# Altium integrated library Capacitor - Ceramic - Sumsung.IntLib: 1421 symbols (part 5 of 22)
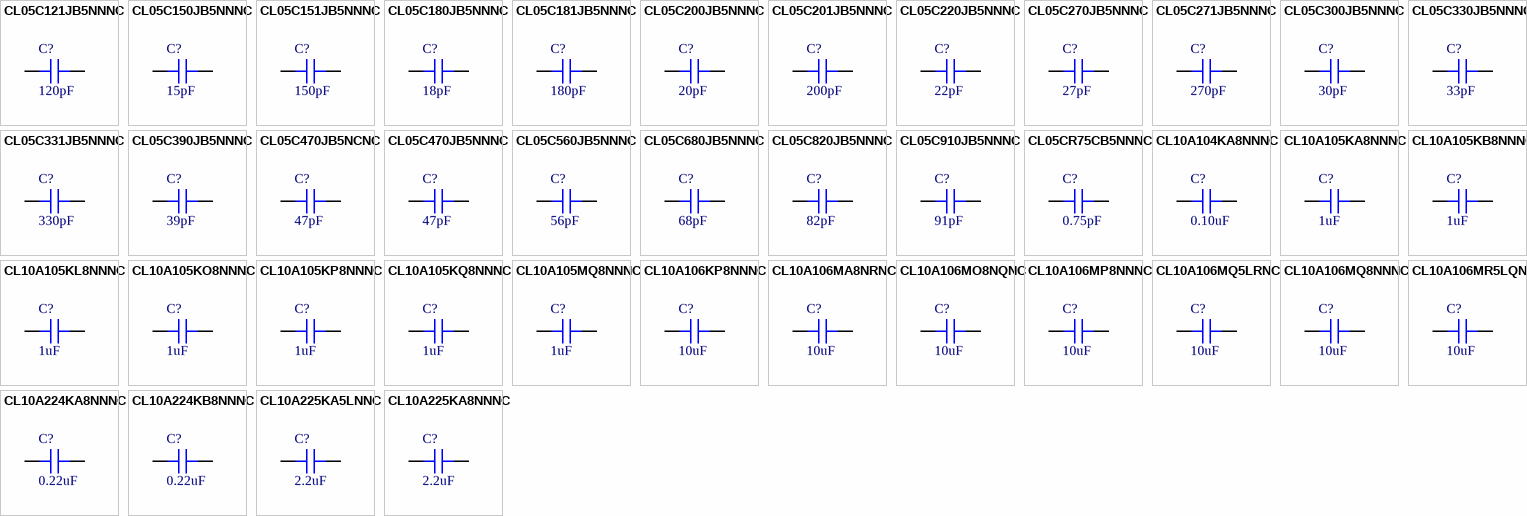
[diagram p39: symbols CL05C121JB5NNNC to CL10A225KA8NNNC]

## CL05C820JB5NNNC
designator C?, comment 82pF
CAP CER 82PF 50V NP0 0402; Part Number: CL05C820JB5NNNC; Manufacturer: Samsung Electro-Mechanics America, Inc.; TemperatureRange: -55C ~ 125C; TemperatureCoefficient: C0G, NP0; Tolerance: 5%; Value: 82pF; PartId: 12571; Supplier 1: Digi-Key; Supplier Part Number 1: 1276-1726-2-ND; ComponentLink1Description: Datasheet; ComponentLink1URL: http://www.samsungsem.com/kr/support/product-search/mlcc/CL05C820JB5NNNC.jsp; ComponentLink2Description: Digi-Key Listing; ComponentLink2URL: https://www.digikey.com/product-detail/en/samsung-electro-mechanics-america-inc/CL05C820JB5NNNC/1276-1726-2-ND/3887384; Voltage: 50V; Price: 0.0023; Device Package: 0402 (1005 Metric)
footprint CAP 0402/1005
pins: 1, 2

## CL05C910JB5NNNC
designator C?, comment 91pF
CAP CER 91PF 50V NP0 0402; Part Number: CL05C910JB5NNNC; Manufacturer: Samsung Electro-Mechanics America, Inc.; TemperatureRange: -55C ~ 125C; TemperatureCoefficient: C0G, NP0; Tolerance: 5%; Value: 91pF; PartId: 12936; Supplier 1: Digi-Key; Supplier Part Number 1: 1276-1732-2-ND; ComponentLink1Description: Datasheet; ComponentLink1URL: http://www.samsungsem.com/kr/support/product-search/mlcc/CL05C910JB5NNNC.jsp; ComponentLink2Description: Digi-Key Listing; ComponentLink2URL: https://www.digikey.com/product-detail/en/samsung-electro-mechanics-america-inc/CL05C910JB5NNNC/1276-1732-2-ND/3887390; Voltage: 50V; Price: 0.0056; Device Package: 0402 (1005 Metric)
footprint CAP 0402/1005
pins: 1, 2

## CL05CR75CB5NNNC
designator C?, comment 0.75pF
CAP CER 0.75PF 50V NP0 0402; Part Number: CL05CR75CB5NNNC; Manufacturer: Samsung Electro-Mechanics America, Inc.; TemperatureRange: -55C ~ 125C; TemperatureCoefficient: C0G, NP0; Tolerance: 0.25pF; Value: 0.75pF; PartId: 12794; Supplier 1: Digi-Key; Supplier Part Number 1: 1276-1736-2-ND; ComponentLink1Description: Datasheet; ComponentLink1URL: http://www.samsungsem.com/kr/support/product-search/mlcc/CL05CR75CB5NNNC.jsp; ComponentLink2Description: Digi-Key Listing; ComponentLink2URL: https://www.digikey.com/product-detail/en/samsung-electro-mechanics-america-inc/CL05CR75CB5NNNC/1276-1736-2-ND/3887394; Voltage: 50V; Price: 0.0046; Device Package: 0402 (1005 Metric)
footprint CAP 0402/1005
pins: 1, 2

## CL10A104KA8NNNC
designator C?, comment 0.10uF
CAP CER 0.1UF 25V X5R 0603; Part Number: CL10A104KA8NNNC; Manufacturer: Samsung Electro-Mechanics America, Inc.; TemperatureRange: -55C ~ 85C; Tolerance: 10%; Value: 0.10uF; PartId: 13476; Supplier 1: Digi-Key; Supplier Part Number 1: 1276-1857-2-ND; ComponentLink1Description: Datasheet; ComponentLink1URL: http://www.samsungsem.com/kr/support/product-search/mlcc/CL10A104KA8NNNC.jsp; ComponentLink2Description: Digi-Key Listing; ComponentLink2URL: https://www.digikey.com/product-detail/en/samsung-electro-mechanics-america-inc/CL10A104KA8NNNC/1276-1857-2-ND/3887515; TemperatureCoefficient: X5R; Voltage: 25V; Price: 0.0069; Device Package: 0603 (1608 Metric)
footprint CAP 0603/1608
pins: 1, 2

## CL10A105KA8NNNC
designator C?, comment 1uF
CAP CER 1UF 25V X5R 0603; Part Number: CL10A105KA8NNNC; Manufacturer: Samsung Electro-Mechanics America, Inc.; TemperatureRange: -55C ~ 85C; Tolerance: 10%; Value: 1uF; PartId: 13209; Supplier 1: Digi-Key; Supplier Part Number 1: 1276-1102-2-ND; ComponentLink1Description: Datasheet; ComponentLink1URL: http://www.samsungsem.com/kr/support/product-search/mlcc/CL10A105KA8NNNC.jsp; ComponentLink2Description: Digi-Key Listing; ComponentLink2URL: https://www.digikey.com/product-detail/en/samsung-electro-mechanics-america-inc/CL10A105KA8NNNC/1276-1102-2-ND/3886760; TemperatureCoefficient: X5R; Voltage: 25V; Price: 0.0082; Device Package: 0603 (1608 Metric)
footprint CAP 0603/1608
pins: 1, 2

## CL10A105KB8NNNC
designator C?, comment 1uF
CAP CER 1UF 50V X5R 0603; Part Number: CL10A105KB8NNNC; Manufacturer: Samsung Electro-Mechanics America, Inc.; TemperatureRange: -55C ~ 85C; Tolerance: 10%; Value: 1uF; PartId: 13187; Supplier 1: Digi-Key; Supplier Part Number 1: 1276-1860-2-ND; ComponentLink1Description: Datasheet; ComponentLink1URL: http://www.samsungsem.com/kr/support/product-search/mlcc/CL10A105KB8NNNC.jsp; ComponentLink2Description: Digi-Key Listing; ComponentLink2URL: https://www.digikey.com/product-detail/en/samsung-electro-mechanics-america-inc/CL10A105KB8NNNC/1276-1860-2-ND/3887518; TemperatureCoefficient: X5R; Voltage: 50V; Price: 0.0236; Device Package: 0603 (1608 Metric)
footprint CAP 0603/1608
pins: 1, 2

## CL10A105KL8NNNC
designator C?, comment 1uF
CAP CER 1UF 35V X5R 0603; Part Number: CL10A105KL8NNNC; Manufacturer: Samsung Electro-Mechanics America, Inc.; TemperatureRange: -55C ~ 85C; Tolerance: 10%; Value: 1uF; PartId: 13292; Supplier 1: Digi-Key; Supplier Part Number 1: 1276-1861-2-ND; ComponentLink1Description: Datasheet; ComponentLink1URL: http://www.samsungsem.com/kr/support/product-search/mlcc/CL10A105KL8NNNC.jsp; ComponentLink2Description: Digi-Key Listing; ComponentLink2URL: https://www.digikey.com/product-detail/en/samsung-electro-mechanics-america-inc/CL10A105KL8NNNC/1276-1861-2-ND/3887519; TemperatureCoefficient: X5R; Voltage: 35V; Price: 0.0236; Device Package: 0603 (1608 Metric)
footprint CAP 0603/1608
pins: 1, 2

## CL10A105KO8NNNC
designator C?, comment 1uF
CAP CER 1UF 16V X5R 0603; Part Number: CL10A105KO8NNNC; Manufacturer: Samsung Electro-Mechanics America, Inc.; TemperatureRange: -55C ~ 85C; Tolerance: 10%; Value: 1uF; PartId: 13125; Supplier 1: Digi-Key; Supplier Part Number 1: 1276-1034-2-ND; ComponentLink1Description: Datasheet; ComponentLink1URL: http://www.samsungsem.com/kr/support/product-search/mlcc/CL10A105KO8NNNC.jsp; ComponentLink2Description: Digi-Key Listing; ComponentLink2URL: https://www.digikey.com/product-detail/en/samsung-electro-mechanics-america-inc/CL10A105KO8NNNC/1276-1034-2-ND/3886692; TemperatureCoefficient: X5R; Voltage: 16V; Price: 0.0072; Device Package: 0603 (1608 Metric)
footprint CAP 0603/1608
pins: 1, 2

## CL10A105KP8NNNC
designator C?, comment 1uF
CAP CER 1UF 10V X5R 0603; Part Number: CL10A105KP8NNNC; Manufacturer: Samsung Electro-Mechanics America, Inc.; TemperatureRange: -55C ~ 85C; Tolerance: 10%; Value: 1uF; PartId: 13628; Supplier 1: Digi-Key; Supplier Part Number 1: 1276-1182-2-ND; ComponentLink1Description: Datasheet; ComponentLink1URL: http://www.samsungsem.com/kr/support/product-search/mlcc/CL10A105KP8NNNC.jsp; ComponentLink2Description: Digi-Key Listing; ComponentLink2URL: https://www.digikey.com/product-detail/en/samsung-electro-mechanics-america-inc/CL10A105KP8NNNC/1276-1182-2-ND/3886840; TemperatureCoefficient: X5R; Voltage: 10V; Price: 0.0058; Device Package: 0603 (1608 Metric)
footprint CAP 0603/1608
pins: 1, 2

## CL10A105KQ8NNNC
designator C?, comment 1uF
CAP CER 1UF 6.3V X5R 0603; Part Number: CL10A105KQ8NNNC; Manufacturer: Samsung Electro-Mechanics; TemperatureRange: -55C ~ 85C; Tolerance: 10%; Value: 1uF; PartId: 30208; Supplier 1: Digi-Key; Supplier Part Number 1: 1276-1036-2-ND; ComponentLink1Description: Datasheet; ComponentLink1URL: http://www.samsungsem.com/kr/support/product-search/mlcc/CL10A105KQ8NNNC.jsp; ComponentLink2Description: Digi-Key Listing; ComponentLink2URL: https://www.digikey.com/product-detail/en/samsung-electro-mechanics/CL10A105KQ8NNNC/1276-1036-2-ND/3886694; TemperatureCoefficient: X5R; Voltage: 6.3V; Price: 0; Device Package: 0603 (1608 Metric)
footprint CAP 0603/1608
pins: 1, 2

## CL10A105MQ8NNNC
designator C?, comment 1uF
CAP CER 1UF 6.3V X5R 0603; Part Number: CL10A105MQ8NNNC; Manufacturer: Samsung Electro-Mechanics America, Inc.; TemperatureRange: -55C ~ 85C; Tolerance: 20%; Value: 1uF; PartId: 13627; Supplier 1: Digi-Key; Supplier Part Number 1: 1276-1867-2-ND; ComponentLink1Description: Datasheet; ComponentLink1URL: http://www.samsungsem.com/kr/support/product-search/mlcc/CL10A105MQ8NNNC.jsp; ComponentLink2Description: Digi-Key Listing; ComponentLink2URL: https://www.digikey.com/product-detail/en/samsung-electro-mechanics-america-inc/CL10A105MQ8NNNC/1276-1867-2-ND/3887525; TemperatureCoefficient: X5R; Voltage: 6.3V; Price: 0.0058; Device Package: 0603 (1608 Metric)
footprint CAP 0603/1608
pins: 1, 2

## CL10A106KP8NNNC
designator C?, comment 10uF
CAP CER 10UF 10V X5R 0603; Part Number: CL10A106KP8NNNC; Manufacturer: Samsung Electro-Mechanics America, Inc.; TemperatureRange: -55C ~ 85C; Tolerance: 10%; Value: 10uF; PartId: 13182; Supplier 1: Digi-Key; Supplier Part Number 1: 1276-1192-2-ND; ComponentLink1Description: Datasheet; ComponentLink1URL: http://www.samsungsem.com/kr/support/product-search/mlcc/CL10A106KP8NNNC.jsp; ComponentLink2Description: Digi-Key Listing; ComponentLink2URL: https://www.digikey.com/product-detail/en/samsung-electro-mechanics-america-inc/CL10A106KP8NNNC/1276-1192-2-ND/3886850; TemperatureCoefficient: X5R; Voltage: 10V; Price: 0.061; Device Package: 0603 (1608 Metric)
footprint CAP 0603/1608
pins: 1, 2

## CL10A106MA8NRNC
designator C?, comment 10uF
CAP CER 10UF 25V X5R 0603; Part Number: CL10A106MA8NRNC; Manufacturer: Samsung Electro-Mechanics America, Inc.; TemperatureRange: -55C ~ 85C; Tolerance: 20%; Value: 10uF; PartId: 13174; Supplier 1: Digi-Key; Supplier Part Number 1: 1276-1869-2-ND; ComponentLink1Description: Datasheet; ComponentLink1URL: http://www.samsungsem.com/kr/support/product-search/mlcc/CL10A106MA8NRNC.jsp; ComponentLink2Description: Digi-Key Listing; ComponentLink2URL: https://www.digikey.com/product-detail/en/samsung-electro-mechanics-america-inc/CL10A106MA8NRNC/1276-1869-2-ND/3887527; TemperatureCoefficient: X5R; Voltage: 25V; Price: 0.196; Device Package: 0603 (1608 Metric)
footprint CAP 0603/1608
pins: 1, 2

## CL10A106MO8NQNC
designator C?, comment 10uF
CAP CER 10UF 16V X5R 0603; Part Number: CL10A106MO8NQNC; Manufacturer: Samsung Electro-Mechanics America, Inc.; TemperatureRange: -55C ~ 85C; Tolerance: 20%; Value: 10uF; PartId: 13189; Supplier 1: Digi-Key; Supplier Part Number 1: 1276-1870-2-ND; ComponentLink1Description: Datasheet; ComponentLink1URL: http://www.samsungsem.com/kr/support/product-search/mlcc/CL10A106MO8NQNC.jsp; ComponentLink2Description: Digi-Key Listing; ComponentLink2URL: https://www.digikey.com/product-detail/en/samsung-electro-mechanics-america-inc/CL10A106MO8NQNC/1276-1870-2-ND/3887528; TemperatureCoefficient: X5R; Voltage: 16V; Price: 0.3135; Device Package: 0603 (1608 Metric)
footprint CAP 0603/1608
pins: 1, 2

## CL10A106MP8NNNC
designator C?, comment 10uF
CAP CER 10UF 10V X5R 0603; Part Number: CL10A106MP8NNNC; Manufacturer: Samsung Electro-Mechanics America, Inc.; TemperatureRange: -55C ~ 85C; Tolerance: 20%; Value: 10uF; PartId: 13169; Supplier 1: Digi-Key; Supplier Part Number 1: 1276-1871-2-ND; ComponentLink1Description: Datasheet; ComponentLink1URL: http://www.samsungsem.com/kr/support/product-search/mlcc/CL10A106MP8NNNC.jsp; ComponentLink2Description: Digi-Key Listing; ComponentLink2URL: https://www.digikey.com/product-detail/en/samsung-electro-mechanics-america-inc/CL10A106MP8NNNC/1276-1871-2-ND/3887529; TemperatureCoefficient: X5R; Voltage: 10V; Price: 0.0736; Device Package: 0603 (1608 Metric)
footprint CAP 0603/1608
pins: 1, 2

## CL10A106MQ5LRNC
designator C?, comment 10uF
CAP CER 10UF 6.3V X5R 0603; Part Number: CL10A106MQ5LRNC; Manufacturer: Samsung Electro-Mechanics America, Inc.; TemperatureRange: -55C ~ 85C; Tolerance: 20%; Value: 10uF; PartId: 13485; Supplier 1: Digi-Key; Supplier Part Number 1: 1276-1872-2-ND; ComponentLink1Description: Datasheet; ComponentLink1URL: http://www.samsungsem.com/kr/support/product-search/mlcc/CL10A106MQ5LRNC.jsp; ComponentLink2Description: Digi-Key Listing; ComponentLink2URL: https://www.digikey.com/product-detail/en/samsung-electro-mechanics-america-inc/CL10A106MQ5LRNC/1276-1872-2-ND/3887530; TemperatureCoefficient: X5R; Voltage: 6.3V; Price: 0.0571; Device Package: 0603 (1608 Metric)
footprint CAP 0603/1608
pins: 1, 2

## CL10A106MQ8NNNC
designator C?, comment 10uF
CAP CER 10UF 6.3V X5R 0603; Part Number: CL10A106MQ8NNNC; Manufacturer: Samsung Electro-Mechanics America, Inc.; TemperatureRange: -55C ~ 85C; Tolerance: 20%; Value: 10uF; PartId: 13031; Supplier 1: Digi-Key; Supplier Part Number 1: 1276-1119-2-ND; ComponentLink1Description: Datasheet; ComponentLink1URL: http://www.samsungsem.com/kr/support/product-search/mlcc/CL10A106MQ8NNNC.jsp; ComponentLink2Description: Digi-Key Listing; ComponentLink2URL: https://www.digikey.com/product-detail/en/samsung-electro-mechanics-america-inc/CL10A106MQ8NNNC/1276-1119-2-ND/3886777; TemperatureCoefficient: X5R; Voltage: 6.3V; Price: 0.0274; Device Package: 0603 (1608 Metric)
footprint CAP 0603/1608
pins: 1, 2

## CL10A106MR5LQNC
designator C?, comment 10uF
CAP CER 10UF 4V X5R 0603; Part Number: CL10A106MR5LQNC; Manufacturer: Samsung Electro-Mechanics America, Inc.; TemperatureRange: -55C ~ 85C; Tolerance: 20%; Value: 10uF; PartId: 13640; Supplier 1: Digi-Key; Supplier Part Number 1: 1276-1873-2-ND; ComponentLink1Description: Datasheet; ComponentLink1URL: http://www.samsungsem.com/kr/support/product-search/mlcc/CL10A106MR5LQNC.jsp; ComponentLink2Description: Digi-Key Listing; ComponentLink2URL: https://www.digikey.com/product-detail/en/samsung-electro-mechanics-america-inc/CL10A106MR5LQNC/1276-1873-2-ND/3887531; TemperatureCoefficient: X5R; Voltage: 4V; Price: 0.0274; Device Package: 0603 (1608 Metric)
footprint CAP 0603/1608
pins: 1, 2

## CL10A224KA8NNNC
designator C?, comment 0.22uF
CAP CER 0.22UF 25V X5R 0603; Part Number: CL10A224KA8NNNC; Manufacturer: Samsung Electro-Mechanics; TemperatureRange: -55C ~ 85C; Tolerance: 10%; Value: 0.22uF; PartId: 30476; Supplier 1: Digi-Key; Supplier Part Number 1: 1276-1875-2-ND; ComponentLink1Description: Datasheet; ComponentLink1URL: http://www.samsungsem.com/kr/support/product-search/mlcc/CL10A224KA8NNNC.jsp; ComponentLink2Description: Digi-Key Listing; ComponentLink2URL: https://www.digikey.com/product-detail/en/samsung-electro-mechanics/CL10A224KA8NNNC/1276-1875-2-ND/3887533; TemperatureCoefficient: X5R; Voltage: 25V; Price: 0; Device Package: 0603 (1608 Metric)
footprint CAP 0603/1608
pins: 1, 2

## CL10A224KB8NNNC
designator C?, comment 0.22uF
CAP CER 0.22UF 50V X5R 0603; Part Number: CL10A224KB8NNNC; Manufacturer: Samsung Electro-Mechanics; TemperatureRange: -55C ~ 85C; Tolerance: 10%; Value: 0.22uF; PartId: 30823; Supplier 1: Digi-Key; Supplier Part Number 1: 1276-1876-2-ND; ComponentLink1Description: Datasheet; ComponentLink1URL: http://www.samsungsem.com/kr/support/product-search/mlcc/CL10A224KB8NNNC.jsp; ComponentLink2Description: Digi-Key Listing; ComponentLink2URL: https://www.digikey.com/product-detail/en/samsung-electro-mechanics/CL10A224KB8NNNC/1276-1876-2-ND/3887534; TemperatureCoefficient: X5R; Voltage: 50V; Price: 0; Device Package: 0603 (1608 Metric)
footprint CAP 0603/1608
pins: 1, 2

## CL10A225KA5LNNC
designator C?, comment 2.2uF
CAP CER 2.2UF 25V X5R 0603; Part Number: CL10A225KA5LNNC; Manufacturer: Samsung Electro-Mechanics America, Inc.; TemperatureRange: -55C ~ 85C; Tolerance: 10%; Value: 2.2uF; PartId: 13338; Supplier 1: Digi-Key; Supplier Part Number 1: 1276-1878-2-ND; ComponentLink1Description: Datasheet; ComponentLink1URL: http://www.samsungsem.com/kr/front/downloadcms.do?path=/kr/support/product-search/mlcc/__icsFiles/afieldfile/2014/11/05&fileName=C_CL10A225KA5LNNC.pdf; ComponentLink2Description: Digi-Key Listing; ComponentLink2URL: https://www.digikey.com/product-detail/en/samsung-electro-mechanics-america-inc/CL10A225KA5LNNC/1276-1878-2-ND/3887536; TemperatureCoefficient: X5R; Voltage: 25V; Price: 0.036; Device Package: 0603 (1608 Metric)
footprint CAP 0603/1608
pins: 1, 2

## CL10A225KA8NNNC
designator C?, comment 2.2uF
CAP CER 2.2UF 25V X5R 0603; Part Number: CL10A225KA8NNNC; Manufacturer: Samsung Electro-Mechanics America, Inc.; TemperatureRange: -55C ~ 85C; Tolerance: 10%; Value: 2.2uF; PartId: 13360; Supplier 1: Digi-Key; Supplier Part Number 1: 1276-1879-2-ND; ComponentLink1Description: Datasheet; ComponentLink1URL: http://www.samsungsem.com/kr/support/product-search/mlcc/CL10A225KA8NNNC.jsp; ComponentLink2Description: Digi-Key Listing; ComponentLink2URL: https://www.digikey.com/product-detail/en/samsung-electro-mechanics-america-inc/CL10A225KA8NNNC/1276-1879-2-ND/3887537; TemperatureCoefficient: X5R; Voltage: 25V; Price: 0.0294; Device Package: 0603 (1608 Metric)
footprint CAP 0603/1608
pins: 1, 2

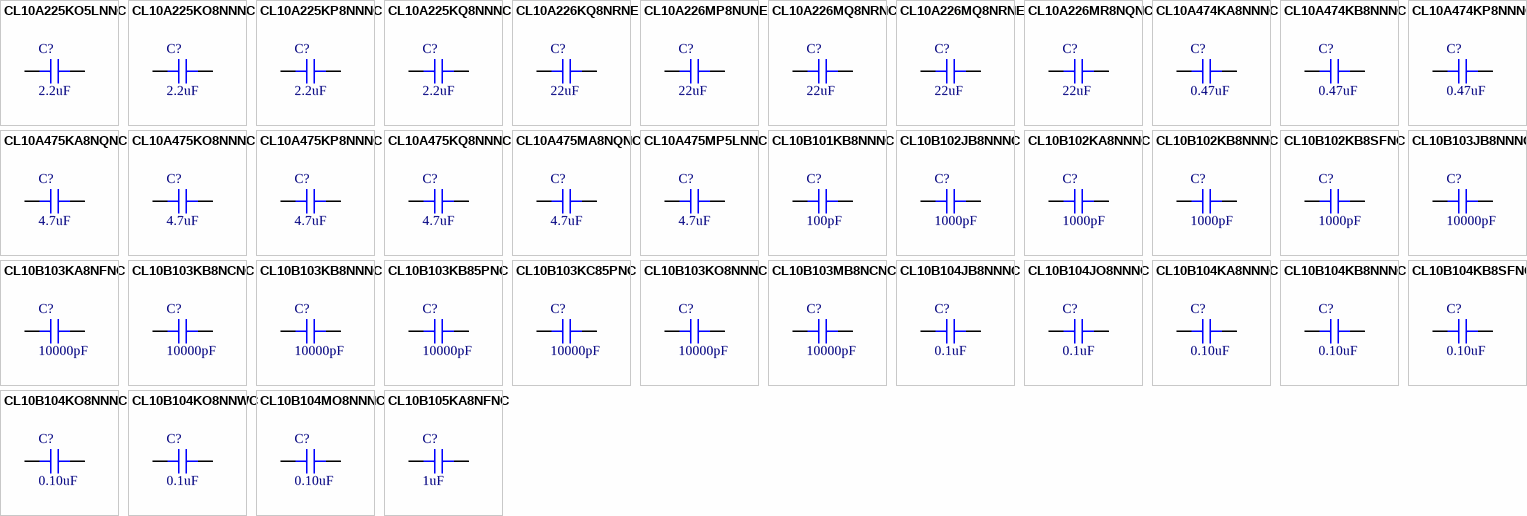
[diagram p7: symbols CL10A225KO5LNNC to CL10B105KA8NFNC]

## CL10A225KO5LNNC
designator C?, comment 2.2uF
CAP CER 2.2UF 16V X5R 0603; Part Number: CL10A225KO5LNNC; Manufacturer: Samsung Electro-Mechanics; TemperatureRange: -55C ~ 85C; Tolerance: 10%; Value: 2.2uF; PartId: 30554; Supplier 1: Digi-Key; Supplier Part Number 1: 1276-1880-2-ND; ComponentLink1Description: Datasheet; ComponentLink1URL: http://www.samsungsem.com/kr/support/product-search/mlcc/CL10A225KO5LNNC.jsp; ComponentLink2Description: Digi-Key Listing; ComponentLink2URL: https://www.digikey.com/product-detail/en/samsung-electro-mechanics/CL10A225KO5LNNC/1276-1880-2-ND/3887538; TemperatureCoefficient: X5R; Voltage: 16V; Price: 0; Device Package: 0603 (1608 Metric)
footprint CAP 0603/1608
pins: 1, 2

## CL10A225KO8NNNC
designator C?, comment 2.2uF
CAP CER 2.2UF 16V X5R 0603; Part Number: CL10A225KO8NNNC; Manufacturer: Samsung Electro-Mechanics America, Inc.; TemperatureRange: -55C ~ 85C; Tolerance: 10%; Value: 2.2uF; PartId: 13108; Supplier 1: Digi-Key; Supplier Part Number 1: 1276-1040-2-ND; ComponentLink1Description: Datasheet; ComponentLink1URL: http://www.samsungsem.com/kr/support/product-search/mlcc/CL10A225KO8NNNC.jsp; ComponentLink2Description: Digi-Key Listing; ComponentLink2URL: https://www.digikey.com/product-detail/en/samsung-electro-mechanics-america-inc/CL10A225KO8NNNC/1276-1040-2-ND/3886698; TemperatureCoefficient: X5R; Voltage: 16V; Price: 0.0236; Device Package: 0603 (1608 Metric)
footprint CAP 0603/1608
pins: 1, 2

## CL10A225KP8NNNC
designator C?, comment 2.2uF
CAP CER 2.2UF 10V X5R 0603; Part Number: CL10A225KP8NNNC; Manufacturer: Samsung Electro-Mechanics America, Inc.; TemperatureRange: -55C ~ 85C; Tolerance: 10%; Value: 2.2uF; PartId: 13147; Supplier 1: Digi-Key; Supplier Part Number 1: 1276-1085-2-ND; ComponentLink1Description: Datasheet; ComponentLink1URL: http://www.samsungsem.com/kr/support/product-search/mlcc/CL10A225KP8NNNC.jsp; ComponentLink2Description: Digi-Key Listing; ComponentLink2URL: https://www.digikey.com/product-detail/en/samsung-electro-mechanics-america-inc/CL10A225KP8NNNC/1276-1085-2-ND/3886743; TemperatureCoefficient: X5R; Voltage: 10V; Price: 0.0184; Device Package: 0603 (1608 Metric)
footprint CAP 0603/1608
pins: 1, 2

## CL10A225KQ8NNNC
designator C?, comment 2.2uF
CAP CER 2.2UF 6.3V X5R 0603; Part Number: CL10A225KQ8NNNC; Manufacturer: Samsung Electro-Mechanics America, Inc.; TemperatureRange: -55C ~ 85C; Tolerance: 10%; Value: 2.2uF; PartId: 13344; Supplier 1: Digi-Key; Supplier Part Number 1: 1276-1183-2-ND; ComponentLink1Description: Datasheet; ComponentLink1URL: http://www.samsungsem.com/kr/support/product-search/mlcc/CL10A225KQ8NNNC.jsp; ComponentLink2Description: Digi-Key Listing; ComponentLink2URL: https://www.digikey.com/product-detail/en/samsung-electro-mechanics-america-inc/CL10A225KQ8NNNC/1276-1183-2-ND/3886841; TemperatureCoefficient: X5R; Voltage: 6.3V; Price: 0.0166; Device Package: 0603 (1608 Metric)
footprint CAP 0603/1608
pins: 1, 2

## CL10A226KQ8NRNE
designator C?, comment 22uF
CAP CER 22UF 6.3V X5R 0603; Part Number: CL10A226KQ8NRNE; Manufacturer: Samsung Electro-Mechanics America, Inc.; TemperatureRange: -55C ~ 85C; Tolerance: 10%; Value: 22uF; PartId: 13568; Supplier 1: Digi-Key; Supplier Part Number 1: 1276-2867-2-ND; ComponentLink1Description: Datasheet; ComponentLink1URL: //media.digikey.com/pdf/Data%20Sheets/Samsung%20PDFs/CL10A226KQ8NRNE_Spec.pdf; ComponentLink2Description: Digi-Key Listing; ComponentLink2URL: https://www.digikey.com/product-detail/en/samsung-electro-mechanics-america-inc/CL10A226KQ8NRNE/1276-2867-2-ND/3888525; TemperatureCoefficient: X5R; Voltage: 6.3V; Price: 0.0741; Device Package: 0603 (1608 Metric)
footprint CAP 0603/1608
pins: 1, 2

## CL10A226MP8NUNE
designator C?, comment 22uF
CAP CER 22UF 10V X5R 0603; Part Number: CL10A226MP8NUNE; Manufacturer: Samsung Electro-Mechanics America, Inc.; TemperatureRange: -55C ~ 85C; Tolerance: 20%; Value: 22uF; PartId: 13111; Supplier 1: Digi-Key; Supplier Part Number 1: 1276-1274-2-ND; ComponentLink1Description: Datasheet; ComponentLink1URL: http://www.samsungsem.com/kr/support/product-search/mlcc/CL10A226MP8NUNE.jsp; ComponentLink2Description: Digi-Key Listing; ComponentLink2URL: https://www.digikey.com/product-detail/en/samsung-electro-mechanics-america-inc/CL10A226MP8NUNE/1276-1274-2-ND/3886932; TemperatureCoefficient: X5R; Voltage: 10V; Price: 0.112; Device Package: 0603 (1608 Metric)
footprint CAP 0603/1608
pins: 1, 2

## CL10A226MQ8NRNC
designator C?, comment 22uF
CAP CER 22UF 6.3V X5R 0603; Part Number: CL10A226MQ8NRNC; Manufacturer: Samsung Electro-Mechanics America, Inc.; TemperatureRange: -55C ~ 85C; Tolerance: 20%; Value: 22uF; PartId: 13020; Supplier 1: Digi-Key; Supplier Part Number 1: 1276-1193-2-ND; ComponentLink1Description: Datasheet; ComponentLink1URL: http://www.samsungsem.com/kr/support/product-search/mlcc/CL10A226MQ8NRNC.jsp; ComponentLink2Description: Digi-Key Listing; ComponentLink2URL: https://www.digikey.com/product-detail/en/samsung-electro-mechanics-america-inc/CL10A226MQ8NRNC/1276-1193-2-ND/3886851; TemperatureCoefficient: X5R; Voltage: 6.3V; Price: 0.0473; Device Package: 0603 (1608 Metric)
footprint CAP 0603/1608
pins: 1, 2

## CL10A226MQ8NRNE
designator C?, comment 22uF
CAP CER 22UF 6.3V X5R 0603; Part Number: CL10A226MQ8NRNE; Manufacturer: Samsung Electro-Mechanics America, Inc.; TemperatureRange: -55C ~ 85C; Tolerance: 20%; Value: 22uF; PartId: 13063; Supplier 1: Digi-Key; Supplier Part Number 1: 1276-2868-2-ND; ComponentLink1Description: Datasheet; ComponentLink1URL: http://www.samsungsem.com/kr/support/product-search/mlcc/CL10A226MQ8NRNE.jsp; ComponentLink2Description: Digi-Key Listing; ComponentLink2URL: https://www.digikey.com/product-detail/en/samsung-electro-mechanics-america-inc/CL10A226MQ8NRNE/1276-2868-2-ND/3888526; TemperatureCoefficient: X5R; Voltage: 6.3V; Price: 0.0512; Device Package: 0603 (1608 Metric)
footprint CAP 0603/1608
pins: 1, 2

## CL10A226MR8NQNC
designator C?, comment 22uF
CAP CER 22UF 4V X5R 0603; Part Number: CL10A226MR8NQNC; Manufacturer: Samsung Electro-Mechanics America, Inc.; TemperatureRange: -55C ~ 85C; Tolerance: 20%; Value: 22uF; PartId: 13385; Supplier 1: Digi-Key; Supplier Part Number 1: 1276-1891-2-ND; ComponentLink1Description: Datasheet; ComponentLink1URL: //media.digikey.com/pdf/Data%20Sheets/Samsung%20PDFs/CL10A226MR8NQNC_spec.pdf; ComponentLink2Description: Digi-Key Listing; ComponentLink2URL: https://www.digikey.com/product-detail/en/samsung-electro-mechanics-america-inc/CL10A226MR8NQNC/1276-1891-2-ND/3887549; TemperatureCoefficient: X5R; Voltage: 4V; Price: 0.0647; Device Package: 0603 (1608 Metric)
footprint CAP 0603/1608
pins: 1, 2

## CL10A474KA8NNNC
designator C?, comment 0.47uF
CAP CER 0.47UF 25V X5R 0603; Part Number: CL10A474KA8NNNC; Manufacturer: Samsung Electro-Mechanics; TemperatureRange: -55C ~ 85C; Tolerance: 10%; Value: 0.47uF; PartId: 30457; Supplier 1: Digi-Key; Supplier Part Number 1: 1276-1895-2-ND; ComponentLink1Description: Datasheet; ComponentLink1URL: http://www.samsungsem.com/kr/support/product-search/mlcc/CL10A474KA8NNNC.jsp; ComponentLink2Description: Digi-Key Listing; ComponentLink2URL: https://www.digikey.com/product-detail/en/samsung-electro-mechanics/CL10A474KA8NNNC/1276-1895-2-ND/3887553; TemperatureCoefficient: X5R; Voltage: 25V; Price: 0; Device Package: 0603 (1608 Metric)
footprint CAP 0603/1608
pins: 1, 2

## CL10A474KB8NNNC
designator C?, comment 0.47uF
CAP CER 0.47UF 50V X5R 0603; Part Number: CL10A474KB8NNNC; Manufacturer: Samsung Electro-Mechanics America, Inc.; TemperatureRange: -55C ~ 85C; Tolerance: 10%; Value: 0.47uF; PartId: 13543; Supplier 1: Digi-Key; Supplier Part Number 1: 1276-1896-2-ND; ComponentLink1Description: Datasheet; ComponentLink1URL: http://www.samsungsem.com/kr/support/product-search/mlcc/CL10A474KB8NNNC.jsp; ComponentLink2Description: Digi-Key Listing; ComponentLink2URL: https://www.digikey.com/product-detail/en/samsung-electro-mechanics-america-inc/CL10A474KB8NNNC/1276-1896-2-ND/3887554; TemperatureCoefficient: X5R; Voltage: 50V; Price: 0.0281; Device Package: 0603 (1608 Metric)
footprint CAP 0603/1608
pins: 1, 2

## CL10A474KP8NNNC
designator C?, comment 0.47uF
CAP CER 0.47UF 10V X5R 0603; Part Number: CL10A474KP8NNNC; Manufacturer: Samsung Electro-Mechanics; TemperatureRange: -55C ~ 85C; Tolerance: 10%; Value: 0.47uF; PartId: 30344; Supplier 1: Digi-Key; Supplier Part Number 1: 1276-1898-2-ND; ComponentLink1Description: Datasheet; ComponentLink1URL: http://www.samsungsem.com/kr/support/product-search/mlcc/CL10A474KP8NNNC.jsp; ComponentLink2Description: Digi-Key Listing; ComponentLink2URL: https://www.digikey.com/product-detail/en/samsung-electro-mechanics/CL10A474KP8NNNC/1276-1898-2-ND/3887556; TemperatureCoefficient: X5R; Voltage: 10V; Price: 0; Device Package: 0603 (1608 Metric)
footprint CAP 0603/1608
pins: 1, 2

## CL10A475KA8NQNC
designator C?, comment 4.7uF
CAP CER 4.7UF 25V X5R 0603; Part Number: CL10A475KA8NQNC; Manufacturer: Samsung Electro-Mechanics America, Inc.; TemperatureRange: -55C ~ 85C; Tolerance: 10%; Value: 4.7uF; PartId: 13123; Supplier 1: Digi-Key; Supplier Part Number 1: 1276-1900-2-ND; ComponentLink1Description: Datasheet; ComponentLink1URL: http://www.samsungsem.com/kr/support/product-search/mlcc/CL10A475KA8NQNC.jsp; ComponentLink2Description: Digi-Key Listing; ComponentLink2URL: https://www.digikey.com/product-detail/en/samsung-electro-mechanics-america-inc/CL10A475KA8NQNC/1276-1900-2-ND/3887558; TemperatureCoefficient: X5R; Voltage: 25V; Price: 0.0763; Device Package: 0603 (1608 Metric)
footprint CAP 0603/1608
pins: 1, 2

## CL10A475KO8NNNC
designator C?, comment 4.7uF
CAP CER 4.7UF 16V X5R 0603; Part Number: CL10A475KO8NNNC; Manufacturer: Samsung Electro-Mechanics America, Inc.; TemperatureRange: -55C ~ 85C; Tolerance: 10%; Value: 4.7uF; PartId: 13180; Supplier 1: Digi-Key; Supplier Part Number 1: 1276-1784-2-ND; ComponentLink1Description: Datasheet; ComponentLink1URL: http://www.samsungsem.com/kr/support/product-search/mlcc/CL10A475KO8NNNC.jsp; ComponentLink2Description: Digi-Key Listing; ComponentLink2URL: https://www.digikey.com/product-detail/en/samsung-electro-mechanics-america-inc/CL10A475KO8NNNC/1276-1784-2-ND/3887442; TemperatureCoefficient: X5R; Voltage: 16V; Price: 0.0499; Device Package: 0603 (1608 Metric)
footprint CAP 0603/1608
pins: 1, 2

## CL10A475KP8NNNC
designator C?, comment 4.7uF
CAP CER 4.7UF 10V X5R 0603; Part Number: CL10A475KP8NNNC; Manufacturer: Samsung Electro-Mechanics America, Inc.; TemperatureRange: -55C ~ 85C; Tolerance: 10%; Value: 4.7uF; PartId: 13341; Supplier 1: Digi-Key; Supplier Part Number 1: 1276-1044-2-ND; ComponentLink1Description: Datasheet; ComponentLink1URL: http://www.samsungsem.com/kr/support/product-search/mlcc/CL10A475KP8NNNC.jsp; ComponentLink2Description: Digi-Key Listing; ComponentLink2URL: https://www.digikey.com/product-detail/en/samsung-electro-mechanics-america-inc/CL10A475KP8NNNC/1276-1044-2-ND/3886702; TemperatureCoefficient: X5R; Voltage: 10V; Price: 0.0205; Device Package: 0603 (1608 Metric)
footprint CAP 0603/1608
pins: 1, 2

## CL10A475KQ8NNNC
designator C?, comment 4.7uF
CAP CER 4.7UF 6.3V X5R 0603; Part Number: CL10A475KQ8NNNC; Manufacturer: Samsung Electro-Mechanics America, Inc.; TemperatureRange: -55C ~ 85C; Tolerance: 10%; Value: 4.7uF; PartId: 13295; Supplier 1: Digi-Key; Supplier Part Number 1: 1276-1045-2-ND; ComponentLink1Description: Datasheet; ComponentLink1URL: http://www.samsungsem.com/kr/support/product-search/mlcc/CL10A475KQ8NNNC.jsp; ComponentLink2Description: Digi-Key Listing; ComponentLink2URL: https://www.digikey.com/product-detail/en/samsung-electro-mechanics-america-inc/CL10A475KQ8NNNC/1276-1045-2-ND/3886703; TemperatureCoefficient: X5R; Voltage: 6.3V; Price: 0.0144; Device Package: 0603 (1608 Metric)
footprint CAP 0603/1608
pins: 1, 2

## CL10A475MA8NQNC
designator C?, comment 4.7uF
CAP CER 4.7UF 25V X5R 0603; Part Number: CL10A475MA8NQNC; Manufacturer: Samsung Electro-Mechanics America, Inc.; TemperatureRange: -55C ~ 85C; Tolerance: 20%; Value: 4.7uF; PartId: 13584; Supplier 1: Digi-Key; Supplier Part Number 1: 1276-1903-2-ND; ComponentLink1Description: Datasheet; ComponentLink1URL: http://www.samsungsem.com/kr/front/downloadcms.do?path=/kr/support/product-search/mlcc/__icsFiles/afieldfile/2014/11/05&fileName=C_CL10A475MA8NQNC.pdf; ComponentLink2Description: Digi-Key Listing; ComponentLink2URL: https://www.digikey.com/product-detail/en/samsung-electro-mechanics-america-inc/CL10A475MA8NQNC/1276-1903-2-ND/3887561; TemperatureCoefficient: X5R; Voltage: 25V; Price: 0.0763; Device Package: 0603 (1608 Metric)
footprint CAP 0603/1608
pins: 1, 2

## CL10A475MP5LNNC
designator C?, comment 4.7uF
CAP CER 4.7UF 10V X5R 0603; Part Number: CL10A475MP5LNNC; Manufacturer: Samsung Electro-Mechanics; TemperatureRange: -55C ~ 85C; Tolerance: 20%; Value: 4.7uF; PartId: 30543; Supplier 1: Digi-Key; Supplier Part Number 1: 1276-6684-2-ND; ComponentLink1Description: Datasheet; ComponentLink1URL: http://www.samsungsem.com/kr/support/product-search/mlcc/CL10A475MP5LNNC.jsp; ComponentLink2Description: Digi-Key Listing; ComponentLink2URL: https://www.digikey.com/product-detail/en/samsung-electro-mechanics/CL10A475MP5LNNC/1276-6684-2-ND/5961168; TemperatureCoefficient: X5R; Voltage: 10V; Price: 0; Device Package: 0603 (1608 Metric)
footprint CAP 0603/1608
pins: 1, 2

## CL10B101KB8NNNC
designator C?, comment 100pF
CAP CER 100PF 50V X7R 0603; Part Number: CL10B101KB8NNNC; Manufacturer: Samsung Electro-Mechanics America, Inc.; TemperatureRange: -55C ~ 125C; Tolerance: 10%; Value: 100pF; PartId: 5325; Supplier 1: Digi-Key; Supplier Part Number 1: 1276-1909-2-ND; ComponentLink1Description: Datasheet; ComponentLink1URL: http://www.samsungsem.com/kr/support/product-search/mlcc/CL10B101KB8NNNC.jsp; ComponentLink2Description: Digi-Key listing; ComponentLink2URL: http://digikey.com/product-detail/en/CL10B101KB8NNNC/1276-1909-2-ND/3887567; TemperatureCoefficient: X7R; Voltage: 50V; Price: 0.0086; Type: -; Device Package: 0603 (1608 Metric)
footprint CAP 0603/1608
pins: 1, 2

## CL10B102JB8NNNC
designator C?, comment 1000pF
CAP CER 1000PF 50V X7R 0603; Part Number: CL10B102JB8NNNC; Manufacturer: Samsung Electro-Mechanics America, Inc.; TemperatureRange: -55C ~ 125C; Tolerance: 5%; Value: 1000pF; PartId: 5384; Supplier 1: Digi-Key; Supplier Part Number 1: 1276-1194-2-ND; ComponentLink1Description: Datasheet; ComponentLink1URL: http://www.samsungsem.com/kr/support/product-search/mlcc/CL10B102JB8NNNC.jsp; ComponentLink2Description: Digi-Key listing; ComponentLink2URL: http://digikey.com/product-detail/en/CL10B102JB8NNNC/1276-1194-2-ND/3886852; TemperatureCoefficient: X7R; Voltage: 50V; Price: 0.0106; Type: -; Device Package: 0603 (1608 Metric)
footprint CAP 0603/1608
pins: 1, 2

## CL10B102KA8NNNC
designator C?, comment 1000pF
CAP CER 1000PF 25V X7R 0603; Part Number: CL10B102KA8NNNC; Manufacturer: Samsung Electro-Mechanics America, Inc.; TemperatureRange: -55C ~ 125C; Tolerance: 10%; Value: 1000pF; PartId: 5270; Supplier 1: Digi-Key; Supplier Part Number 1: 1276-1195-2-ND; ComponentLink1Description: Datasheet; ComponentLink1URL: http://www.samsungsem.com/kr/support/product-search/mlcc/CL10B102KA8NNNC.jsp; ComponentLink2Description: Digi-Key listing; ComponentLink2URL: http://digikey.com/product-detail/en/CL10B102KA8NNNC/1276-1195-2-ND/3886853; TemperatureCoefficient: X7R; Voltage: 25V; Price: 0.0046; Type: -; Device Package: 0603 (1608 Metric)
footprint CAP 0603/1608
pins: 1, 2

## CL10B102KB8NNNC
designator C?, comment 1000pF
CAP CER 1000PF 50V X7R 0603; Part Number: CL10B102KB8NNNC; Manufacturer: Samsung Electro-Mechanics America, Inc.; TemperatureRange: -55C ~ 125C; Tolerance: 10%; Value: 1000pF; PartId: 5269; Supplier 1: Digi-Key; Supplier Part Number 1: 1276-1018-2-ND; ComponentLink1Description: Datasheet; ComponentLink1URL: http://www.samsungsem.com/kr/support/product-search/mlcc/CL10B102KB8NNNC.jsp; ComponentLink2Description: Digi-Key listing; ComponentLink2URL: http://digikey.com/product-detail/en/CL10B102KB8NNNC/1276-1018-2-ND/3886676; TemperatureCoefficient: X7R; Voltage: 50V; Price: 0.0046; Type: -; Device Package: 0603 (1608 Metric)
footprint CAP 0603/1608
pins: 1, 2

## CL10B102KB8SFNC
designator C?, comment 1000pF
CAP CER 1000PF 50V X7R 0603; Part Number: CL10B102KB8SFNC; Manufacturer: Samsung Electro-Mechanics America, Inc.; TemperatureRange: -55C ~ 125C; Tolerance: 10%; Value: 1000pF; PartId: 13009; Supplier 1: Digi-Key; Supplier Part Number 1: 1276-1916-2-ND; ComponentLink1Description: Datasheet; ComponentLink1URL: http://www.samsungsem.com/kr/support/product-search/mlcc/CL10B102KB8SFNC.jsp; ComponentLink2Description: Digi-Key Listing; ComponentLink2URL: https://www.digikey.com/product-detail/en/samsung-electro-mechanics-america-inc/CL10B102KB8SFNC/1276-1916-2-ND/3887574; TemperatureCoefficient: X7R; Voltage: 50V; Price: 0.0032; Device Package: 0603 (1608 Metric)
footprint CAP 0603/1608
pins: 1, 2

## CL10B103JB8NNNC
designator C?, comment 10000pF
CAP CER 10000PF 50V X7R 0603; Part Number: CL10B103JB8NNNC; Manufacturer: Samsung Electro-Mechanics America, Inc.; TemperatureRange: -55C ~ 125C; Tolerance: 5%; Value: 10000pF; PartId: 13288; Supplier 1: Digi-Key; Supplier Part Number 1: 1276-1103-2-ND; ComponentLink1Description: Datasheet; ComponentLink1URL: http://www.samsungsem.com/kr/support/product-search/mlcc/CL10B103JB8NNNC.jsp; ComponentLink2Description: Digi-Key Listing; ComponentLink2URL: https://www.digikey.com/product-detail/en/samsung-electro-mechanics-america-inc/CL10B103JB8NNNC/1276-1103-2-ND/3886761; TemperatureCoefficient: X7R; Voltage: 50V; Price: 0.0069; Device Package: 0603 (1608 Metric)
footprint CAP 0603/1608
pins: 1, 2

## CL10B103KA8NFNC
designator C?, comment 10000pF
CAP CER 10000PF 25V X7R 0603; Part Number: CL10B103KA8NFNC; Manufacturer: Samsung Electro-Mechanics; TemperatureRange: -55C ~ 125C; Tolerance: 10%; Value: 10000pF; PartId: 30233; Supplier 1: Digi-Key; Supplier Part Number 1: 1276-1919-2-ND; ComponentLink1Description: Datasheet; ComponentLink1URL: http://www.samsungsem.com/kr/support/product-search/mlcc/CL10B103KA8NFNC.jsp; ComponentLink2Description: Digi-Key Listing; ComponentLink2URL: https://www.digikey.com/product-detail/en/samsung-electro-mechanics/CL10B103KA8NFNC/1276-1919-2-ND/3887577; TemperatureCoefficient: X7R; Voltage: 25V; Price: 0; Device Package: 0603 (1608 Metric)
footprint CAP 0603/1608
pins: 1, 2

## CL10B103KB8NCNC
designator C?, comment 10000pF
CAP CER 10000PF 50V X7R 0603; Part Number: CL10B103KB8NCNC; Manufacturer: Samsung Electro-Mechanics America, Inc.; TemperatureRange: -55C ~ 125C; Tolerance: 10%; Value: 10000pF; PartId: 13008; Supplier 1: Digi-Key; Supplier Part Number 1: 1276-1921-2-ND; ComponentLink1Description: Datasheet; ComponentLink1URL: http://www.samsungsem.com/kr/support/library/product-catalog/__icsFiles/afieldfile/2015/11/18/MLCC.pdf; ComponentLink2Description: Digi-Key Listing; ComponentLink2URL: https://www.digikey.com/product-detail/en/samsung-electro-mechanics-america-inc/CL10B103KB8NCNC/1276-1921-2-ND/3887579; TemperatureCoefficient: X7R; Voltage: 50V; Price: 0.0032; Device Package: 0603 (1608 Metric)
footprint CAP 0603/1608
pins: 1, 2

## CL10B103KB8NNNC
designator C?, comment 10000pF
CAP CER 10000PF 50V X7R 0603; Part Number: CL10B103KB8NNNC; Manufacturer: Samsung Electro-Mechanics America, Inc.; TemperatureRange: -55C ~ 125C; Tolerance: 10%; Value: 10000pF; PartId: 13141; Supplier 1: Digi-Key; Supplier Part Number 1: 1276-1009-2-ND; ComponentLink1Description: Datasheet; ComponentLink1URL: http://www.samsungsem.com/kr/support/product-search/mlcc/CL10B103KB8NNNC.jsp; ComponentLink2Description: Digi-Key Listing; ComponentLink2URL: https://www.digikey.com/product-detail/en/samsung-electro-mechanics-america-inc/CL10B103KB8NNNC/1276-1009-2-ND/3886667; TemperatureCoefficient: X7R; Voltage: 50V; Price: 0.0032; Device Package: 0603 (1608 Metric)
footprint CAP 0603/1608
pins: 1, 2

## CL10B103KB85PNC
designator C?, comment 10000pF
CAP CER 10000PF 50V X7R 0603; Part Number: CL10B103KB85PNC; Manufacturer: Samsung Electro-Mechanics America, Inc.; TemperatureRange: -55C ~ 125C; Tolerance: 10%; Value: 10000pF; PartId: 13570; Supplier 1: Digi-Key; Supplier Part Number 1: 1276-1920-2-ND; ComponentLink1Description: Datasheet; ComponentLink1URL: http://www.samsungsem.com/kr/support/library/product-catalog/__icsFiles/afieldfile/2015/11/18/MLCC.pdf; ComponentLink2Description: Digi-Key Listing; ComponentLink2URL: https://www.digikey.com/product-detail/en/samsung-electro-mechanics-america-inc/CL10B103KB85PNC/1276-1920-2-ND/3887578; TemperatureCoefficient: X7R; Voltage: 50V; Price: 0.0069; Device Package: 0603 (1608 Metric)
footprint CAP 0603/1608
pins: 1, 2

## CL10B103KC85PNC
designator C?, comment 10000pF
CAP CER 10000PF 100V X7R 0603; Part Number: CL10B103KC85PNC; Manufacturer: Samsung Electro-Mechanics America, Inc.; TemperatureRange: -55C ~ 125C; Tolerance: 10%; Value: 10000pF; PartId: 13529; Supplier 1: Digi-Key; Supplier Part Number 1: 1276-1925-2-ND; ComponentLink1Description: Datasheet; ComponentLink1URL: http://www.samsungsem.com/kr/support/library/product-catalog/__icsFiles/afieldfile/2015/11/18/MLCC.pdf; ComponentLink2Description: Digi-Key Listing; ComponentLink2URL: https://www.digikey.com/product-detail/en/samsung-electro-mechanics-america-inc/CL10B103KC85PNC/1276-1925-2-ND/3887583; TemperatureCoefficient: X7R; Voltage: 100V; Price: 0.0085; Device Package: 0603 (1608 Metric)
footprint CAP 0603/1608
pins: 1, 2

## CL10B103KO8NNNC
designator C?, comment 10000pF
CAP CER 10000PF 16V X7R 0603; Part Number: CL10B103KO8NNNC; Manufacturer: Samsung Electro-Mechanics America, Inc.; TemperatureRange: -55C ~ 125C; Tolerance: 10%; Value: 10000pF; PartId: 5271; Supplier 1: Digi-Key; Supplier Part Number 1: 1276-1926-2-ND; ComponentLink1Description: Datasheet; ComponentLink1URL: http://www.samsungsem.com/kr/support/product-search/mlcc/CL10B103KO8NNNC.jsp; ComponentLink2Description: Digi-Key listing; ComponentLink2URL: http://digikey.com/product-detail/en/CL10B103KO8NNNC/1276-1926-2-ND/3887584; TemperatureCoefficient: X7R; Voltage: 16V; Price: 0.0047; Type: -; Device Package: 0603 (1608 Metric)
footprint CAP 0603/1608
pins: 1, 2

## CL10B103MB8NCNC
designator C?, comment 10000pF
CAP CER 10000PF 50V X7R 0603; Part Number: CL10B103MB8NCNC; Manufacturer: Samsung Electro-Mechanics America, Inc.; TemperatureRange: -55C ~ 125C; Tolerance: 20%; Value: 10000pF; PartId: 13153; Supplier 1: Digi-Key; Supplier Part Number 1: 1276-1927-2-ND; ComponentLink1Description: Datasheet; ComponentLink1URL: http://www.samsungsem.com/kr/support/library/product-catalog/__icsFiles/afieldfile/2015/11/18/MLCC.pdf; ComponentLink2Description: Digi-Key Listing; ComponentLink2URL: https://www.digikey.com/product-detail/en/samsung-electro-mechanics-america-inc/CL10B103MB8NCNC/1276-1927-2-ND/3887585; TemperatureCoefficient: X7R; Voltage: 50V; Price: 0.0032; Device Package: 0603 (1608 Metric)
footprint CAP 0603/1608
pins: 1, 2

## CL10B104JB8NNNC
designator C?, comment 0.1uF
CAP CER 0.1UF 50V X7R 0603; Part Number: CL10B104JB8NNNC; Manufacturer: Samsung Electro-Mechanics America, Inc.; TemperatureRange: -55C ~ 125C; Tolerance: 5%; Value: 0.1uF; PartId: 5416; Supplier 1: Digi-Key; Supplier Part Number 1: 1276-1033-2-ND; ComponentLink1Description: Datasheet; ComponentLink1URL: http://www.samsungsem.com/kr/support/product-search/mlcc/CL10B104JB8NNNC.jsp; ComponentLink2Description: Digi-Key listing; ComponentLink2URL: http://digikey.com/product-detail/en/CL10B104JB8NNNC/1276-1033-2-ND/3886691; TemperatureCoefficient: X7R; Voltage: 50V; Price: 0.0132; Type: -; Device Package: 0603 (1608 Metric)
footprint CAP 0603/1608
pins: 1, 2

## CL10B104JO8NNNC
designator C?, comment 0.1uF
CAP CER 0.1UF 16V X7R 0603; Part Number: CL10B104JO8NNNC; Manufacturer: Samsung Electro-Mechanics America, Inc.; TemperatureRange: -55C ~ 125C; Tolerance: 5%; Value: 0.1uF; PartId: 5417; Supplier 1: Digi-Key; Supplier Part Number 1: 1276-1061-2-ND; ComponentLink1Description: Datasheet; ComponentLink1URL: http://www.samsungsem.com/kr/support/product-search/mlcc/CL10B104JO8NNNC.jsp; ComponentLink2Description: Digi-Key listing; ComponentLink2URL: http://digikey.com/product-detail/en/CL10B104JO8NNNC/1276-1061-2-ND/3886719; TemperatureCoefficient: X7R; Voltage: 16V; Price: 0.0132; Type: -; Device Package: 0603 (1608 Metric)
footprint CAP 0603/1608
pins: 1, 2

## CL10B104KA8NNNC
designator C?, comment 0.10uF
CAP CER 0.1UF 25V X7R 0603; Part Number: CL10B104KA8NNNC; Manufacturer: Samsung Electro-Mechanics America, Inc.; TemperatureRange: -55C ~ 125C; Tolerance: 10%; Value: 0.10uF; PartId: 13014; Supplier 1: Digi-Key; Supplier Part Number 1: 1276-1006-2-ND; ComponentLink1Description: Datasheet; ComponentLink1URL: http://www.samsungsem.com/kr/support/product-search/mlcc/CL10B104KA8NNNC.jsp; ComponentLink2Description: Digi-Key Listing; ComponentLink2URL: https://www.digikey.com/product-detail/en/samsung-electro-mechanics-america-inc/CL10B104KA8NNNC/1276-1006-2-ND/3886664; TemperatureCoefficient: X7R; Voltage: 25V; Price: 0.0035; Device Package: 0603 (1608 Metric)
footprint CAP 0603/1608
pins: 1, 2

## CL10B104KB8NNNC
designator C?, comment 0.10uF
CAP CER 0.1UF 50V X7R 0603; Part Number: CL10B104KB8NNNC; Manufacturer: Samsung Electro-Mechanics America, Inc.; TemperatureRange: -55C ~ 125C; Tolerance: 10%; Value: 0.10uF; PartId: 12945; Supplier 1: Digi-Key; Supplier Part Number 1: 1276-1000-2-ND; ComponentLink1Description: Datasheet; ComponentLink1URL: http://www.samsungsem.com/kr/support/product-search/mlcc/CL10B104KB8NNNC.jsp; ComponentLink2Description: Digi-Key Listing; ComponentLink2URL: https://www.digikey.com/product-detail/en/samsung-electro-mechanics-america-inc/CL10B104KB8NNNC/1276-1000-2-ND/3886658; TemperatureCoefficient: X7R; Voltage: 50V; Price: 0.0052; Device Package: 0603 (1608 Metric)
footprint CAP 0603/1608
pins: 1, 2

## CL10B104KB8SFNC
designator C?, comment 0.10uF
CAP CER 0.1UF 50V X7R 0603; Part Number: CL10B104KB8SFNC; Manufacturer: Samsung Electro-Mechanics America, Inc.; TemperatureRange: -55C ~ 125C; Tolerance: 10%; Value: 0.10uF; PartId: 12960; Supplier 1: Digi-Key; Supplier Part Number 1: 1276-1936-2-ND; ComponentLink1Description: Datasheet; ComponentLink1URL: http://www.samsungsem.com/kr/support/product-search/mlcc/CL10B104KB8SFNC.jsp; ComponentLink2Description: Digi-Key Listing; ComponentLink2URL: https://www.digikey.com/product-detail/en/samsung-electro-mechanics-america-inc/CL10B104KB8SFNC/1276-1936-2-ND/3887594; TemperatureCoefficient: X7R; Voltage: 50V; Price: 0.0052; Device Package: 0603 (1608 Metric)
footprint CAP 0603/1608
pins: 1, 2

## CL10B104KO8NNNC
designator C?, comment 0.10uF
CAP CER 0.1UF 16V X7R 0603; Part Number: CL10B104KO8NNNC; Manufacturer: Samsung Electro-Mechanics America, Inc.; TemperatureRange: -55C ~ 125C; Tolerance: 10%; Value: 0.10uF; PartId: 13005; Supplier 1: Digi-Key; Supplier Part Number 1: 1276-1005-2-ND; ComponentLink1Description: Datasheet; ComponentLink1URL: http://www.samsungsem.com/kr/support/product-search/mlcc/CL10B104KO8NNNC.jsp; ComponentLink2Description: Digi-Key Listing; ComponentLink2URL: https://www.digikey.com/product-detail/en/samsung-electro-mechanics-america-inc/CL10B104KO8NNNC/1276-1005-2-ND/3886663; TemperatureCoefficient: X7R; Voltage: 16V; Price: 0.0034; Device Package: 0603 (1608 Metric)
footprint CAP 0603/1608
pins: 1, 2

## CL10B104KO8NNWC
designator C?, comment 0.1uF
CAP CER 0.1UF 16V X7R 0603; Part Number: CL10B104KO8NNWC; Manufacturer: Samsung Electro-Mechanics; TemperatureRange: -55C ~ 125C; Tolerance: 10%; Value: 0.1uF; PartId: 30201; Supplier 1: Digi-Key; Supplier Part Number 1: 1276-1939-2-ND; ComponentLink1Description: Datasheet; ComponentLink1URL: http://www.samsungsem.com/kr/support/product-search/mlcc/CL10B104KO8NNWC.jsp; ComponentLink2Description: Digi-Key Listing; ComponentLink2URL: https://www.digikey.com/product-detail/en/samsung-electro-mechanics/CL10B104KO8NNWC/1276-1939-2-ND/3887597; TemperatureCoefficient: X7R; Voltage: 16V; Price: 0; Device Package: 0603 (1608 Metric)
footprint CAP 0603/1608
pins: 1, 2

## CL10B104MO8NNNC
designator C?, comment 0.10uF
CAP CER 0.1UF 16V X7R 0603; Part Number: CL10B104MO8NNNC; Manufacturer: Samsung Electro-Mechanics America, Inc.; TemperatureRange: -55C ~ 125C; Tolerance: 20%; Value: 0.10uF; PartId: 13432; Supplier 1: Digi-Key; Supplier Part Number 1: 1276-1031-2-ND; ComponentLink1Description: Datasheet; ComponentLink1URL: http://www.samsungsem.com/kr/support/product-search/mlcc/CL10B104MO8NNNC.jsp; ComponentLink2Description: Digi-Key Listing; ComponentLink2URL: https://www.digikey.com/product-detail/en/samsung-electro-mechanics-america-inc/CL10B104MO8NNNC/1276-1031-2-ND/3886689; TemperatureCoefficient: X7R; Voltage: 16V; Price: 0.0034; Device Package: 0603 (1608 Metric)
footprint CAP 0603/1608
pins: 1, 2

## CL10B105KA8NFNC
designator C?, comment 1uF
CAP CER 1UF 25V X7R 0603; Part Number: CL10B105KA8NFNC; Manufacturer: Samsung Electro-Mechanics America, Inc.; TemperatureRange: -55C ~ 125C; Tolerance: 10%; Value: 1uF; PartId: 13195; Supplier 1: Digi-Key; Supplier Part Number 1: 1276-1942-2-ND; ComponentLink1Description: Datasheet; ComponentLink1URL: //media.digikey.com/pdf/Data%20Sheets/Samsung%20PDFs/CL10B105KA8NFNC_Spec.pdf; ComponentLink2Description: Digi-Key Listing; ComponentLink2URL: https://www.digikey.com/product-detail/en/samsung-electro-mechanics-america-inc/CL10B105KA8NFNC/1276-1942-2-ND/3887600; TemperatureCoefficient: X7R; Voltage: 25V; Price: 0.0131; Device Package: 0603 (1608 Metric)
footprint CAP 0603/1608
pins: 1, 2

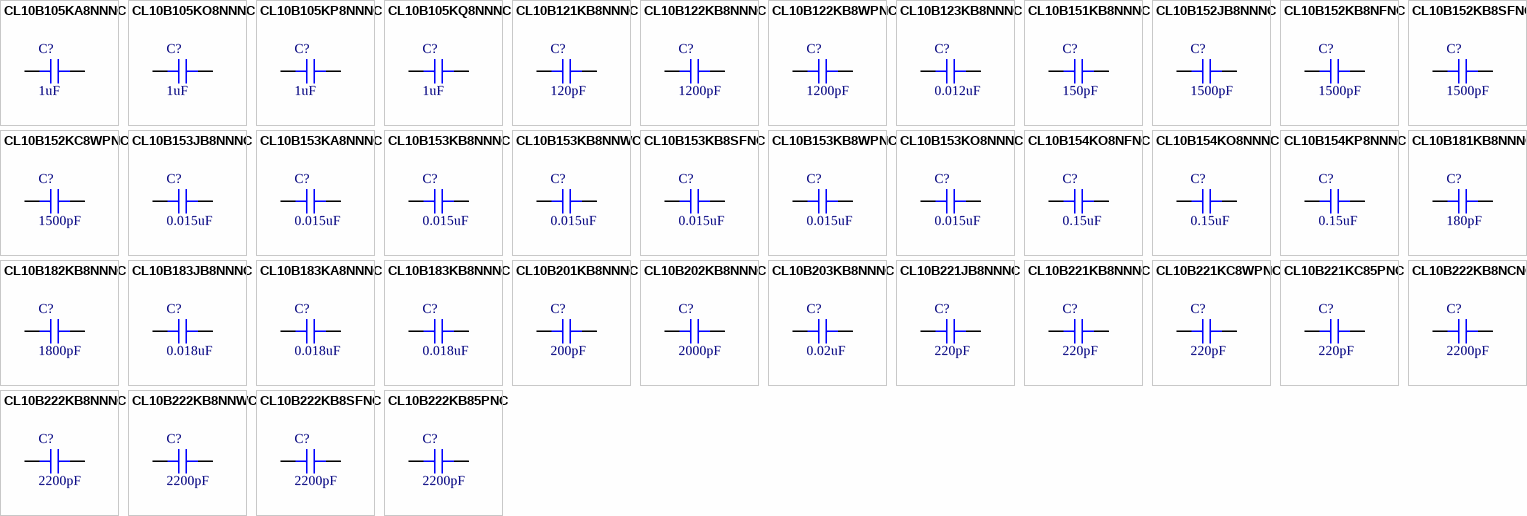
[diagram p8: symbols CL10B105KA8NNNC to CL10B222KB85PNC]

## CL10B105KA8NNNC
designator C?, comment 1uF
CAP CER 1UF 25V X7R 0603; Part Number: CL10B105KA8NNNC; Manufacturer: Samsung Electro-Mechanics America, Inc.; TemperatureRange: -55C ~ 125C; Tolerance: 10%; Value: 1uF; PartId: 12976; Supplier 1: Digi-Key; Supplier Part Number 1: 1276-1184-2-ND; ComponentLink1Description: Datasheet; ComponentLink1URL: //media.digikey.com/pdf/Data%20Sheets/Samsung%20PDFs/CL10B105KA8NNNC_spec.pdf; ComponentLink2Description: Digi-Key Listing; ComponentLink2URL: https://www.digikey.com/product-detail/en/samsung-electro-mechanics-america-inc/CL10B105KA8NNNC/1276-1184-2-ND/3886842; TemperatureCoefficient: X7R; Voltage: 25V; Price: 0.0131; Device Package: 0603 (1608 Metric)
footprint CAP 0603/1608
pins: 1, 2

## CL10B105KO8NNNC
designator C?, comment 1uF
CAP CER 1UF 16V X7R 0603; Part Number: CL10B105KO8NNNC; Manufacturer: Samsung Electro-Mechanics America, Inc.; TemperatureRange: -55C ~ 125C; Tolerance: 10%; Value: 1uF; PartId: 13124; Supplier 1: Digi-Key; Supplier Part Number 1: 1276-1019-2-ND; ComponentLink1Description: Datasheet; ComponentLink1URL: http://www.samsungsem.com/kr/support/product-search/mlcc/CL10B105KO8NNNC.jsp; ComponentLink2Description: Digi-Key Listing; ComponentLink2URL: https://www.digikey.com/product-detail/en/samsung-electro-mechanics-america-inc/CL10B105KO8NNNC/1276-1019-2-ND/3886677; TemperatureCoefficient: X7R; Voltage: 16V; Price: 0.0085; Device Package: 0603 (1608 Metric)
footprint CAP 0603/1608
pins: 1, 2

## CL10B105KP8NNNC
designator C?, comment 1uF
CAP CER 1UF 10V X7R 0603; Part Number: CL10B105KP8NNNC; Manufacturer: Samsung Electro-Mechanics America, Inc.; TemperatureRange: -55C ~ 125C; Tolerance: 10%; Value: 1uF; PartId: 13241; Supplier 1: Digi-Key; Supplier Part Number 1: 1276-1946-2-ND; ComponentLink1Description: Datasheet; ComponentLink1URL: http://www.samsungsem.com/kr/support/product-search/mlcc/CL10B105KP8NNNC.jsp; ComponentLink2Description: Digi-Key Listing; ComponentLink2URL: https://www.digikey.com/product-detail/en/samsung-electro-mechanics-america-inc/CL10B105KP8NNNC/1276-1946-2-ND/3887604; TemperatureCoefficient: X7R; Voltage: 10V; Price: 0.0078; Device Package: 0603 (1608 Metric)
footprint CAP 0603/1608
pins: 1, 2

## CL10B105KQ8NNNC
designator C?, comment 1uF
CAP CER 1UF 6.3V X7R 0603; Part Number: CL10B105KQ8NNNC; Manufacturer: Samsung Electro-Mechanics America, Inc.; TemperatureRange: -55C ~ 125C; Tolerance: 10%; Value: 1uF; PartId: 5397; Supplier 1: Digi-Key; Supplier Part Number 1: 1276-1024-2-ND; ComponentLink1Description: Datasheet; ComponentLink1URL: http://www.samsungsem.com/kr/support/product-search/mlcc/CL10B105KQ8NNNC.jsp; ComponentLink2Description: Digi-Key listing; ComponentLink2URL: http://digikey.com/product-detail/en/CL10B105KQ8NNNC/1276-1024-2-ND/3886682; TemperatureCoefficient: X7R; Voltage: 6.3V; Price: 0.0112; Type: -; Device Package: 0603 (1608 Metric)
footprint CAP 0603/1608
pins: 1, 2

## CL10B121KB8NNNC
designator C?, comment 120pF
CAP CER 120PF 50V X7R 0603; Part Number: CL10B121KB8NNNC; Manufacturer: Samsung Electro-Mechanics America, Inc.; TemperatureRange: -55C ~ 125C; Tolerance: 10%; Value: 120pF; PartId: 5244; Supplier 1: Digi-Key; Supplier Part Number 1: 1276-1949-2-ND; ComponentLink1Description: Datasheet; ComponentLink1URL: http://www.samsungsem.com/kr/support/product-search/mlcc/CL10B121KB8NNNC.jsp; ComponentLink2Description: Digi-Key listing; ComponentLink2URL: http://digikey.com/product-detail/en/CL10B121KB8NNNC/1276-1949-2-ND/3887607; TemperatureCoefficient: X7R; Voltage: 50V; Price: 0.0032; Type: -; Device Package: 0603 (1608 Metric)
footprint CAP 0603/1608
pins: 1, 2